# EAGLE library part MMA8451QR1 (library Sensor)
ACCELEROMETER 2-8G I2C 16QFN Manufacturer's datasheet <http://cache.freescale.com/files/sensors/doc/data_sheet/MMA8451Q.pdf>
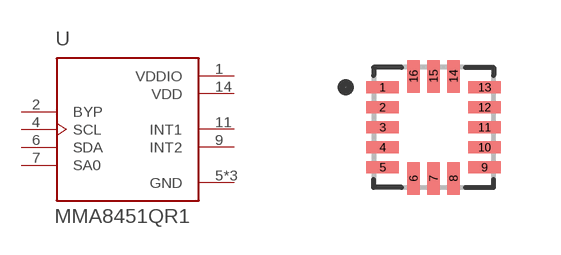
[diagram p24: symbol with the pads of QFN-16; footprint QFN-16]

Designator prefix U

## MMA8451QR1 (CREATED_BY: PCBLayout.com; DIGIKEY_PN: MMA8451QR1TR-ND; MANUFACTURER: NXP USA Inc.; MPN: MMA8451QR1; PACKAGE: QFN-16)  [QFN-16]
1  VDDIO  pwr
2  BYP  pas
4  SCL  in
5  GND  pwr
6  SDA  in
7  SA0  in
9  INT2  out
10  GND  pwr
11  INT1  out
12  GND  pwr
14  VDD  pwr

## Footprint QFN-16 (pad centres in mm)
smd 0.813 x 0.305: 1 -1.275,1; 2 -1.275,0.5; 3 -1.275,0; 4 -1.275,-0.5; 5 -1.275,-1; 9 1.275,-1; 10 1.275,-0.5; 11 1.275,0; 12 1.275,0.5; 13 1.275,1
smd 0.305 x 0.813: 6 -0.5,-1.275; 7 0,-1.275; 8 0.5,-1.275; 14 0.5,1.275; 15 0,1.275; 16 -0.5,1.275